# Altium footprint library PcbLib1.PcbLib: 46 footprints (part 1 of 3)
Each footprint in its own frame and in the unit in brackets; x right, y up, seen from the top. Pads: shape width x height; smd on the part's side, far side on the other; paste and mask are expansions set on the pad; w line width, h text height; cw(c..) or ccw(c..) is an arc to the next point about the centre after c.
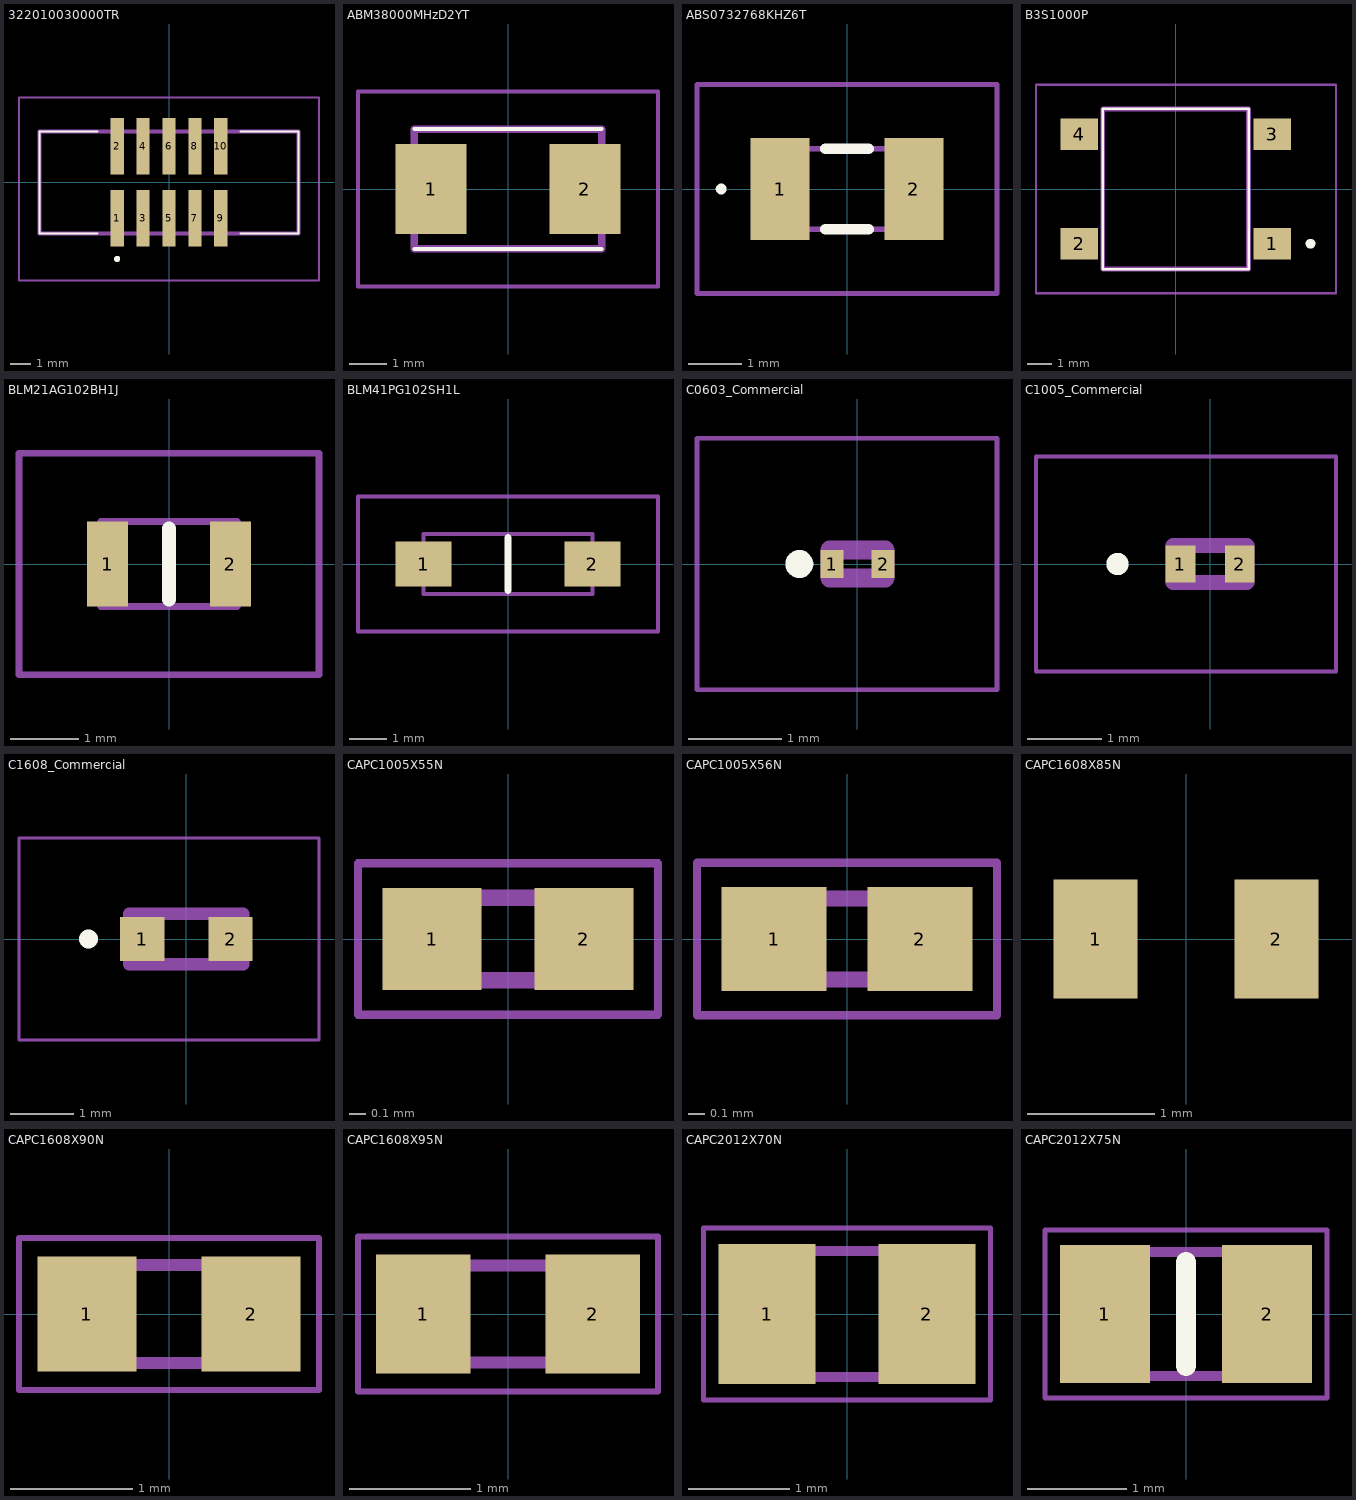
[diagram p0: the footprints below, top view; thin cyan lines are the x and y axes]

## 322010030000TR [mm]
pads (10):
  rect 0.65x2.77 smd: 1(-2.54,-1.765) 2(-2.54,1.765) 3(-1.27,-1.765) 4(-1.27,1.765) 5(0,-1.765) 6(0,1.765) 7(1.27,-1.765) 8(1.27,1.765) 9(2.54,-1.765) 10(2.54,1.765)
Top Overlay:
  lines w0.1: -6.35,-2.5 -3.5,-2.5 -6.35,-2.5 ; -6.35,-2.5 -6.35,2.5 ; -6.35,-2.5 -6.35,2.5 ; -6.35,2.5 -3.5,2.5 -6.35,2.5 ; 6.35,-2.5 6.35,2.5 ; 6.35,-2.5 6.35,2.5 ; 6.35,-2.5 3.5,-2.5 6.35,-2.5 ; 6.35,2.5 3.5,2.5 6.35,2.5
  lines w0.2: -2.54,-3.8 cw(c-2.54,-3.75) -2.54,-3.7 ; -2.54,-3.8 ccw(c-2.54,-3.75) -2.54,-3.7 ; -2.54,-3.8 cw(c-2.54,-3.75) -2.54,-3.7
Mechanical 13:
  lines w0.2: -6.35,-2.5 -6.35,2.5 6.35,2.5 6.35,-2.5 -6.35,-2.5
Mechanical 15:
  lines w0.1: -7.35,-4.8 -7.35,4.15 7.35,4.15 7.35,-4.8 -7.35,-4.8
3D body "3220-10-0300-00-TR.stp": height 5.65, standoff 0, extent -6.35,-3.085 6.35,3.085

## ABM38000MHzD2YT [mm]
pads (2):
  rect 1.9x2.4 smd: 1(-2.05,0) 2(2.05,0)
Top Overlay:
  lines w0.1: -2.5,-1.6 2.5,-1.6 ; -2.5,1.6 2.5,1.6
Mechanical 13:
  lines w0.2: -2.5,-1.6 2.5,-1.6 2.5,1.6 -2.5,1.6 -2.5,-1.6
Mechanical 15:
  lines w0.1: -4,-2.6 4,-2.6 4,2.6 -4,2.6 -4,-2.6
3D body "ABM3-12.000MHZ-D2Y-T.stp": height 1.3, standoff 0, extent -2.5,-1.6 2.5,1.6

## ABS0732768KHZ6T [mm]
pads (2):
  rect 1.1x1.9 smd: 1(-1.25,0) 2(1.25,0)
Top Overlay:
  lines w0.1: -2.4,0 ccw(c-2.35,0) -2.3,0 ccw(c-2.35,0) -2.4,0
  lines w0.2: -0.4,-0.75 0.4,-0.75 ; -0.4,0.75 0.4,0.75
Mechanical 13:
  lines w0.1: -1.6,-0.75 1.6,-0.75 1.6,0.75 -1.6,0.75 -1.6,-0.75
Mechanical 15:
  lines w0.1: -2.8,-1.95 2.8,-1.95 2.8,1.95 -2.8,1.95 -2.8,-1.95

## B3S1000P [mm]
pads (4):
  rect 1.55x1.3 smd: 1(3.975,-2.25) 2(-3.975,-2.25) 3(3.975,2.25) 4(-3.975,2.25)
Top Overlay:
  lines w0.1: -3,-3.3 -3,3.3 3,3.3 3,-3.3 -3,-3.3
  lines w0.3: 5.5,-2.25 cw(c5.55,-2.25) 5.6,-2.25 cw(c5.55,-2.25) 5.5,-2.25
Mechanical 13:
  lines w0.2: -3,-3.3 -3,3.3 3,3.3 3,-3.3 -3,-3.3
Mechanical 15:
  lines w0.1: -5.75,-4.3 -5.75,4.3 6.6,4.3 6.6,-4.3 -5.75,-4.3

## BLM21AG102BH1J [mm]
pads (2):
  rect 0.6x1.25 smd: 1(-0.9,0) 2(0.9,0)
Top Overlay:
  lines w0.2: 0,-0.525 0,0.525
Mechanical 13:
  lines w0.1: -1,-0.625 -1,0.625 1,0.625 1,-0.625 -1,-0.625
Mechanical 15:
  lines w0.1: -2.2,-1.625 -2.2,1.625 2.2,1.625 2.2,-1.625 -2.2,-1.625
3D body "BLM21AG121SN1D.stp": height 1.15, standoff 0, extent -1.14,-0.625 1.14,0.625

## BLM41PG102SH1L [mm]
pads (2):
  rect 1.5x1.2 smd: 1(-2.25,0) 2(2.25,0)
Top Overlay:
  lines w0.2: 0,-0.7 0,0.7
Mechanical 13:
  lines w0.1: -2.25,-0.8 2.25,-0.8 2.25,0.8 -2.25,0.8 -2.25,-0.8
Mechanical 15:
  lines w0.1: -4,-1.8 4,-1.8 4,1.8 -4,1.8 -4,-1.8
3D body "BLM41PG102SN1L.stp": height 1.9, standoff 0, extent -2.88,-0.8 2.88,0.8

## C0603_Commercial [mm]
pads (2):
  rect 0.25x0.3 smd: 1(-0.275,0) 2(0.275,0)
Top Overlay:
  circle w0.2: c-0.625,0 r0.05
Mechanical 13:
  lines w0.2: -0.3,-0.15 0.3,-0.15 0.3,0.15 -0.3,0.15 -0.3,-0.15
Mechanical 15:
  lines w0.05: -1.725,-1.35 1.5,-1.35 1.5,1.35 -1.725,1.35 -1.725,-1.35
3D body "C0603C0G1H680K030BA.stp": height 0.43, standoff 0, extent -0.375,-0.15 0.375,0.15

## C1005_Commercial [mm]
pads (2):
  rect 0.4x0.5 smd: 1(-0.4,0) 2(0.4,0)
Top Overlay:
  circle w0.2: c-1.25,0 r0.05
Mechanical 13:
  lines w0.2: -0.5,-0.25 -0.5,0.25 0.5,0.25 0.5,-0.25 -0.5,-0.25
Mechanical 15:
  lines w0.05: -2.35,-1.45 -2.35,1.45 1.7,1.45 1.7,-1.45 -2.35,-1.45
3D body "C1005C0G1H470F050BA.stp": height 0.65, standoff 0, extent -0.56,-0.25 0.56,0.25

## C1608_Commercial [mm]
pads (2):
  rect 0.7x0.7 smd: 1(-0.7,0) 2(0.7,0)
Top Overlay:
  circle w0.2: c-1.55,0 r0.05
Mechanical 13:
  lines w0.2: -0.9,-0.4 0.9,-0.4 0.9,0.4 -0.9,0.4 -0.9,-0.4
Mechanical 15:
  lines w0.05: -2.65,-1.6 2.1,-1.6 2.1,1.6 -2.65,1.6 -2.65,-1.6
3D body "C1608X5R0J226M080AC.stp": height 0.8, standoff 0, extent -0.8,-0.4 0.8,0.4

## CAPC1005X55N [mm]
pads (2):
  rect 0.6x0.62 smd: 1(-0.46,0) 2(0.46,0)
Mechanical 13:
  lines w0.1: -0.5,-0.25 -0.5,0.25 0.5,0.25 0.5,-0.25 -0.5,-0.25
Mechanical 15:
  lines w0.05: -0.91,-0.46 -0.91,0.46 0.91,0.46 0.91,-0.46 -0.91,-0.46
3D body "GRM155R71C104KA88D.stp": height 0.55, standoff 0, extent -0.5,-0.25 0.5,0.25

## CAPC1005X56N [mm]
pads (2):
  rect 0.65x0.64 smd: 1(-0.45,0) 2(0.45,0)
Mechanical 13:
  lines w0.1: -0.5,-0.25 0.5,-0.25 0.5,0.25 -0.5,0.25 -0.5,-0.25
Mechanical 15:
  lines w0.05: -0.925,-0.47 0.925,-0.47 0.925,0.47 -0.925,0.47 -0.925,-0.47
3D body "04025A101FAT2A.stp": height 0.56, standoff 0, extent -0.5,-0.25 0.5,0.25

## CAPC1608X85N [mil]
pads (2):
  rect 26x37 smd: 1(-28,0) 2(28,0)
3D body "C0603C475K8PACTU.stp": height 0, standoff -37.4, extent 0,0 68.9,35.43

## CAPC1608X90N [mm]
pads (2):
  rect 0.81x0.94 smd: 1(-0.67,0) 2(0.67,0)
Mechanical 13:
  lines w0.1: -0.8,-0.4 0.8,-0.4 0.8,0.4 -0.8,0.4 -0.8,-0.4
Mechanical 15:
  lines w0.05: -1.225,-0.62 1.225,-0.62 1.225,0.62 -1.225,0.62 -1.225,-0.62
3D body "GMK107BJ105KA-T.stp": height 0.9, standoff 0, extent -0.8,-0.4 0.8,0.4

## CAPC1608X95N [mm]
pads (2):
  rect 0.78x0.98 smd: 1(-0.7,0) 2(0.7,0)
Mechanical 13:
  lines w0.1: -0.8,-0.4 -0.8,0.4 0.8,0.4 0.8,-0.4 -0.8,-0.4
Mechanical 15:
  lines w0.05: -1.24,-0.64 -1.24,0.64 1.24,0.64 1.24,-0.64 -1.24,-0.64
3D body "C0603C104K5RACTU.stp": height 0.95, standoff 0, extent -0.8,-0.4 0.8,0.4

## CAPC2012X70N [mm]
pads (2):
  rect 0.96x1.39 smd: 1(-0.79,0) 2(0.79,0)
Mechanical 13:
  lines w0.1: -1,-0.625 -1,0.625 1,0.625 1,-0.625 -1,-0.625
Mechanical 15:
  lines w0.05: -1.42,-0.85 -1.42,0.85 1.42,0.85 1.42,-0.85 -1.42,-0.85
3D body "CC0805JRNPO9BN120.stp": height 0.7, standoff 0, extent -1,-0.625 1,0.625

## CAPC2012X75N [mm]
pads (2):
  rect 0.91x1.39 smd: 1(-0.82,0) 2(0.82,0)
Top Overlay:
  lines w0.2: 0,-0.525 0,0.525
Mechanical 13:
  lines w0.1: -1,-0.625 -1,0.625 1,0.625 1,-0.625 -1,-0.625
Mechanical 15:
  lines w0.05: -1.425,-0.85 -1.425,0.85 1.425,0.85 1.425,-0.85 -1.425,-0.85
3D body "CL21C330JBANNNC.stp": height 0.75, standoff 0, extent -1,-0.625 1,0.625